# EAGLE library part WT32_BREAKOUT (library SparkFun)
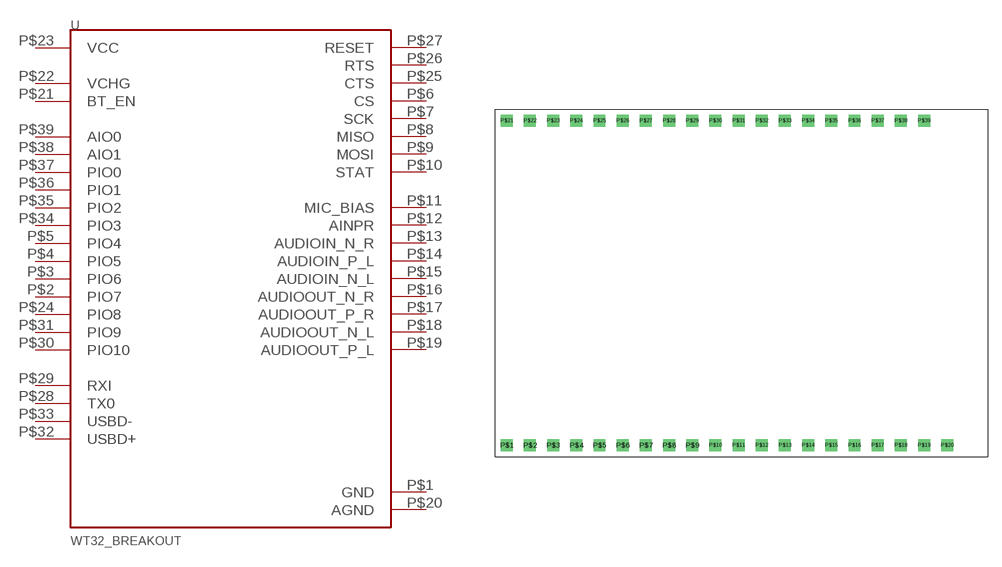
[diagram p182: symbol with the pads of WT32_BREAKOUT; footprint WT32_BREAKOUT]

Designator prefix -

## WT32_BREAKOUT  [WT32_BREAKOUT]
P$1  GND
P$2  PIO7
P$3  PIO6
P$4  PIO5
P$5  PIO4
P$6  CS
P$7  SCK
P$8  MISO
P$9  MOSI
P$10  STAT
P$11  MIC_BIAS
P$12  AINPR
P$13  AUDIOIN_N_R
P$14  AUDIOIN_P_L
P$15  AUDIOIN_N_L
P$16  AUDIOOUT_N_R
P$17  AUDIOOUT_P_R
P$18  AUDIOOUT_N_L
P$19  AUDIOOUT_P_L
P$20  AGND
P$21  BT_EN
P$22  VCHG
P$23  VCC
P$24  PIO8
P$25  CTS
P$26  RTS
P$27  RESET
P$28  TX0
P$29  RXI
P$30  PIO10
P$31  PIO9
P$32  USBD+
P$33  USBD-
P$34  PIO3
P$35  PIO2
P$36  PIO1
P$37  PIO0
P$38  AIO1
P$39  AIO0

## Footprint WT32_BREAKOUT (pad centres in mm)
Breakout board for WT32
drill 0.8 square: P$1 -22.86,-10.16; P$2 -20.32,-10.16; P$3 -17.78,-10.16; P$4 -15.24,-10.16; P$5 -12.7,-10.16; P$6 -10.16,-10.16; P$7 -7.62,-10.16; P$8 -5.08,-10.16; P$9 -2.54,-10.16; P$10 0,-10.16; P$11 2.54,-10.16; P$12 5.08,-10.16; P$13 7.62,-10.16; P$14 10.16,-10.16; P$15 12.7,-10.16; P$16 15.24,-10.16; P$17 17.78,-10.16; P$18 20.32,-10.16; P$19 22.86,-10.16; P$20 25.4,-10.16; P$21 -22.86,25.4; P$22 -20.32,25.4; P$23 -17.78,25.4; P$24 -15.24,25.4; P$25 -12.7,25.4; P$26 -10.16,25.4; P$27 -7.62,25.4; P$28 -5.08,25.4; P$29 -2.54,25.4; P$30 0,25.4; P$31 2.54,25.4; P$32 5.08,25.4; P$33 7.62,25.4; P$34 10.16,25.4; P$35 12.7,25.4; P$36 15.24,25.4; P$37 17.78,25.4; P$38 20.32,25.4; P$39 22.86,25.4